# Altium schematic symbol library ZEPTOSMDC0011F.SchLib: 1 symbol
Pins are listed as number, name and electrical type; pins without a type are passive.

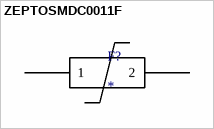
[diagram p0: symbol ZEPTOSMDC0011F]

## ZEPTOSMDC0011F
designator F?
PartNumber: ZEPTOSMDC0011F; Manufacturer: LittleFuse; PartDescription: PTC RESET FUSE 11MA 13VDC 0201; Package Type: 0201; Supplier 1: Digi-Key; Supplier Part Number 1: 18-ZEPTOSMDC0011FCT-ND
footprint PCBComponent_1
pins: 1, 2